# Altium footprint library patchRF.PcbLib: 3 footprints
Each footprint in its own frame and in the unit in brackets; x right, y up, seen from the top. Pads: shape width x height; smd on the part's side, far side on the other; paste and mask are expansions set on the pad; w line width, h text height; cw(c..) or ccw(c..) is an arc to the next point about the centre after c.
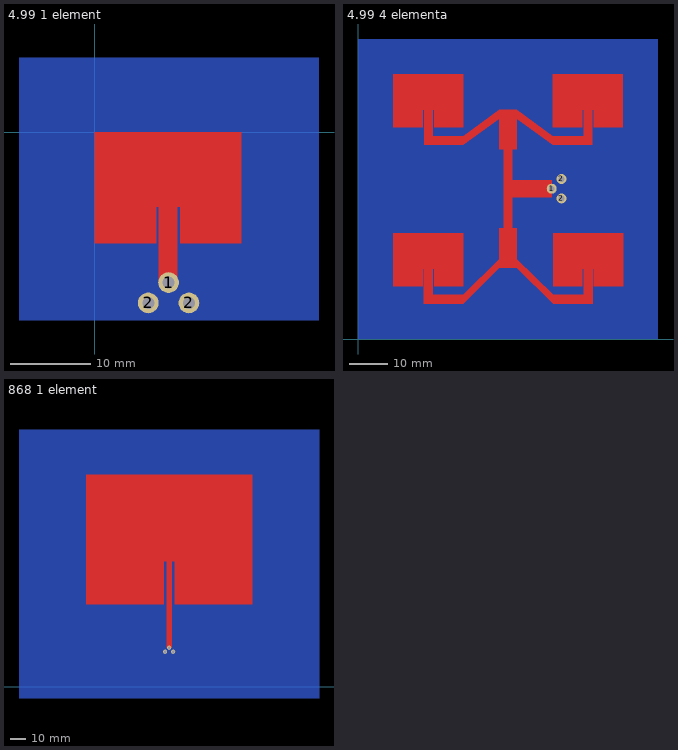
[diagram p0: the footprints below, top view; thin cyan lines are the x and y axes]

## 4.99 1 element [mm]
pads (3):
  round 2.6 hole 1.5: 1(9.2,-18.8) 2(6.66,-21.34) 2(11.74,-21.34)
Top Layer:
  region: 0,0 18.3,0 18.3,-13.9 10.675,-13.9 10.675,-9.3 10.3,-9.3 10.3,-18.8 8,-18.8 8,-9.3 7.65,-9.3 7.65,-13.9 0,-13.9
Bottom Layer:
  region: -9.5,9.3 28,9.3 28,-23.5 -9.5,-23.5

## 4.99 4 elementa [mm]
pads (3):
  round 2.6 hole 1.5: 1(50.575,39.275) 2(53.115,36.735) 2(53.115,41.815)
Top Layer:
  region: 50.625,41.55 40.325,41.55 40.325,37.05 50.625,37.05
  region: 40.325,28.925 40.325,49.6 38.025,49.6 38.025,28.925
  region: 41.425,59.9 50.9,53 50.9,50.7 41.425,57.6
  region: 27.5,53 36.925,59.9 36.925,57.6 27.5,50.7
  region: 41.425,49.6 41.425,59.9 36.925,59.9 36.925,49.6
  region: 41.5,18.625 41.5,28.925 36.9,28.925 36.9,18.625
  region: 27.5,9.2 36.925,18.625 36.9,20.9 27.5,11.5
  region: 41.5,18.625 51,9.2 51,11.5 41.5,20.9
  region: 51,9.2 61.2,9.2 61.2,11.5 51,11.5
  region: 17.2,9.2 27.5,9.2 27.5,11.5 17.2,11.5
  region: 50.9,50.7 61.2,50.7 61.2,53 50.9,53
  region: 17.2,50.7 27.5,50.7 27.5,53 17.2,53
  region: 9.2,69.2 27.5,69.2 27.5,55.3 19.85,55.3 19.85,59.9 19.5,59.9 19.5,50.7 17.2,50.7 17.2,59.9 16.85,59.9 16.85,55.3 9.2,55.3
  region: 50.9,69.2 69.2,69.2 69.2,55.3 61.55,55.3 61.55,59.9 61.2,59.9 61.2,50.7 58.9,50.7 58.9,59.9 58.55,59.9 58.55,55.3 50.9,55.3
  region: 9.175,27.7 27.475,27.7 27.475,13.8 19.825,13.8 19.825,18.4 19.475,18.4 19.475,9.2 17.175,9.2 17.175,18.4 16.825,18.4 16.825,13.8 9.175,13.8
  region: 50.95,27.7 69.25,27.7 69.25,13.8 61.6,13.8 61.6,18.4 61.25,18.4 61.25,9.2 58.95,9.2 58.95,18.4 58.6,18.4 58.6,13.8 50.95,13.8
Bottom Layer:
  region: 0,0 0,78.4 78.3,78.4 78.3,0.1

## 868 1 element [mm]
pads (3):
  round 2.6 hole 1.5: 1(105.125,24.775) 2(102.585,22.235) 2(107.665,22.235)
Top Layer:
  region: 52.6,134.2 157.6,134.2 157.6,52.2 108.6,52.2 108.6,79.5 106.65,79.5 106.65,24.8 103.525,24.8 103.525,79.5 101.6,79.5 101.6,52.2 52.6,52.2
Bottom Layer:
  region: 10,-7.2 200,-7.2 200,162.8 10,162.8